# EAGLE library part RF04_6PINS (library act-global-nolan)
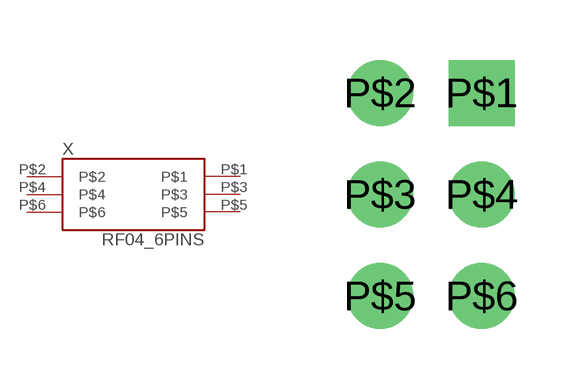
[diagram p17: symbol with the pads of PINS_6-2X3; footprint PINS_6-2X3]

Designator prefix X

## RF04_6PINS  [PINS_6-2X3]
P$1  P$1
P$2  P$2
P$3  P$3
P$4  P$4
P$5  P$5
P$6  P$6

## Footprint PINS_6-2X3 (pad centres in mm)
drill 1.1 square: P$1 0,0
drill 1.1: P$2 -2.54,0; P$3 -2.54,-2.54; P$4 0,-2.54; P$5 -2.54,-5.08; P$6 0,-5.08